# EAGLE library part ATTINY84A (library Next_Make_CPW_2015)
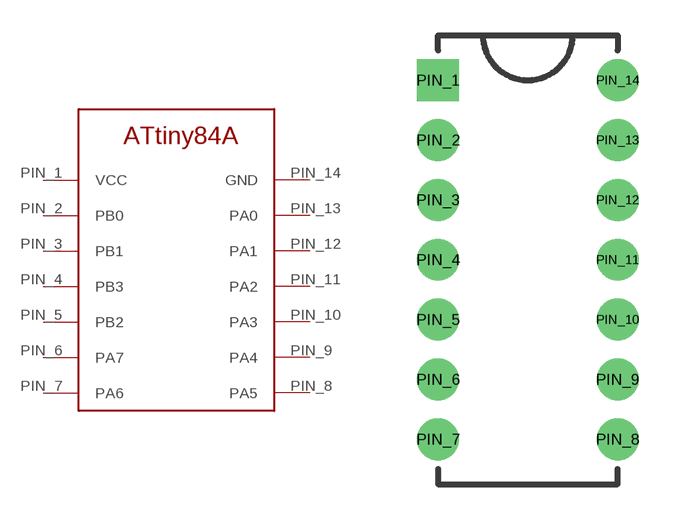
[diagram p1: symbol with the pads of PDIP-14; footprint PDIP-14]

Designator prefix -

## ATTINY84A  [PDIP-14]
PIN_1  VCC
PIN_2  PB0
PIN_3  PB1
PIN_4  PB3
PIN_5  PB2
PIN_6  PA7
PIN_7  PA6
PIN_8  PA5
PIN_9  PA4
PIN_10  PA3
PIN_11  PA2
PIN_12  PA1
PIN_13  PA0
PIN_14  GND

## Footprint PDIP-14 (pad centres in mm)
drill 0.762 pad 1.778 square: PIN_1 0,15.24
drill 0.762 pad 1.778: PIN_2 0,12.7; PIN_3 0,10.16; PIN_4 0,7.62; PIN_5 0,5.08; PIN_6 0,2.54; PIN_7 0,0; PIN_8 7.62,0; PIN_9 7.62,2.54; PIN_10 7.62,5.08; PIN_11 7.62,7.62; PIN_12 7.62,10.16; PIN_13 7.62,12.7; PIN_14 7.62,15.24